# Altium schematic symbol library S805ԭ��ͼ��װ��..SchLib: 9 symbols
Pins are listed as number, name and electrical type; pins without a type are passive.

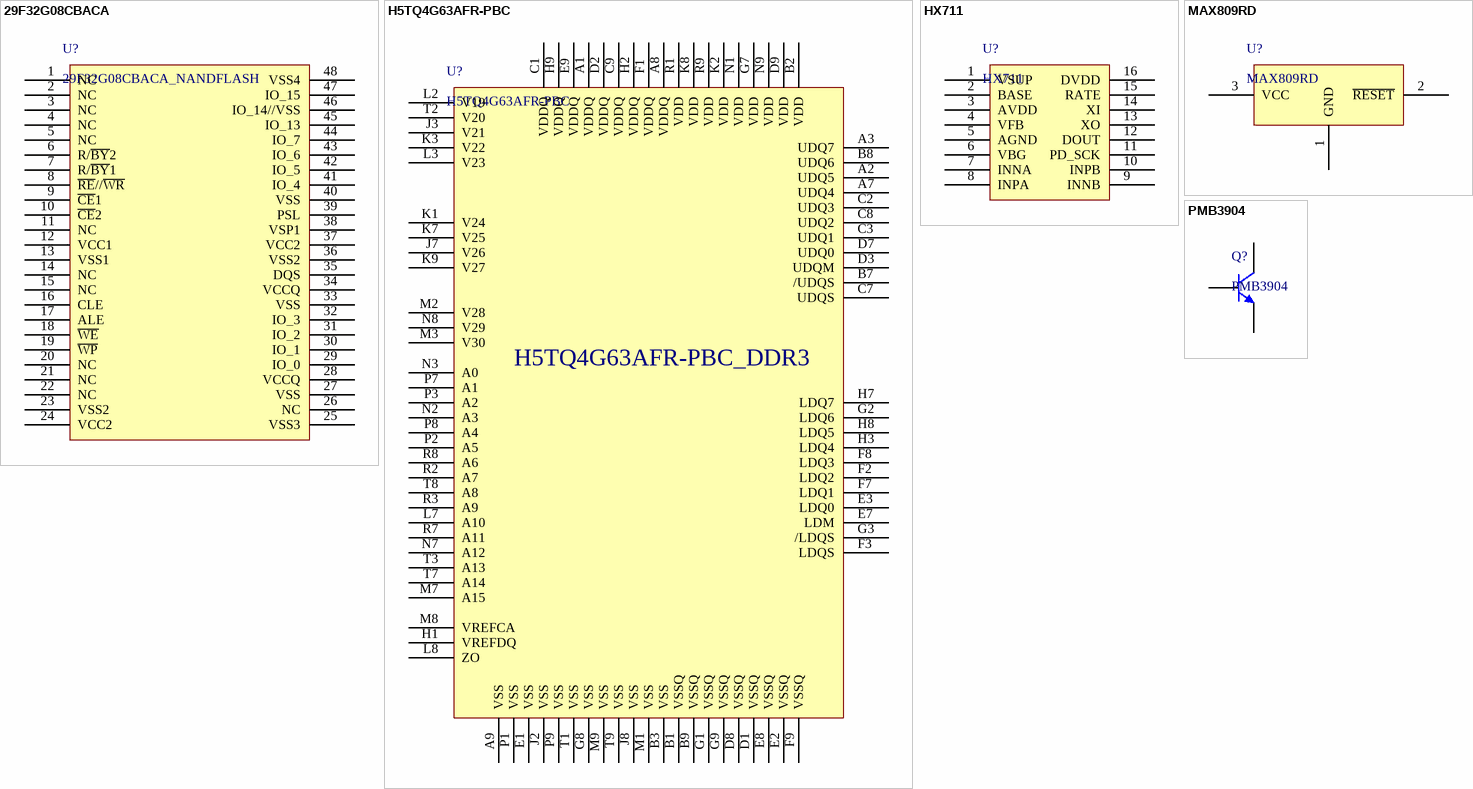
[diagram p0: symbols 29F32G08CBACA to PMB3904]

## 29F32G08CBACA
designator U?, comment 29F32G08CBACA_NANDFLASH
footprint 29F32G08CBACA
pins: 1 NC, 2 NC, 3 NC, 4 NC, 5 NC, 6 R/~{BY}2, 7 R/~{BY}1, 8 ~{RE}//~{WR}, 9 ~{CE}1, 10 ~{CE}2, 11 NC, 12 VCC1, 13 VSS1, 14 NC, 15 NC, 16 CLE, 17 ALE, 18 ~{WE}, 19 ~{WP}, 20 NC, 21 NC, 22 NC, 23 VSS2, 24 VCC2, 25 VSS3, 26 NC, 27 VSS, 28 VCCQ, 29 IO_0, 30 IO_1, 31 IO_2, 32 IO_3, 33 VSS, 34 VCCQ, 35 DQS, 36 VSS2, 37 VCC2, 38 VSP1, 39 PSL, 40 VSS, 41 IO_4, 42 IO_5, 43 IO_6, 44 IO_7, 45 IO_13, 46 IO_14//VSS, 47 IO_15, 48 VSS4

## H5TQ4G63AFR-PBC
designator U?
footprint H5TQ4G63AFR_PBC
pins: A1 VDDQ, A2 UDQ5, A3 UDQ7, A7 UDQ4, A8 VDDQ, A9 VSS, B1 VSSQ, B2 VDD, B3 VSS, B7 /UDQS, B8 UDQ6, B9 VSSQ, C1 VDDQ, C2 UDQ3, C3 UDQ1, C7 UDQS, C8 UDQ2, C9 VDDQ, D1 VSSQ, D2 VDDQ, D3 UDQM, D7 UDQ0, D8 VSSQ, D9 VDD, E1 VSS, E2 VSSQ, E3 LDQ0, E7 LDM, E8 VSSQ, E9 VDDQ, F1 VDDQ, F2 LDQ2, F3 LDQS, F7 LDQ1, F8 LDQ3, F9 VSSQ, G1 VSSQ, G2 LDQ6, G3 /LDQS, G7 VDD, G8 VSS, G9 VSSQ, H1 VREFDQ, H2 VDDQ, H3 LDQ4, H7 LDQ7, H8 LDQ5, H9 VDDQ, J2 VSS, J3 V21, J7 V26, J8 VSS, K1 V24, K2 VDD, K3 V22, K7 V25, K8 VDD, K9 V27, L2 V19, L3 V23, L7 A10, L8 ZO, M1 VSS, M2 V28, M3 V30, M7 A15, M8 VREFCA, M9 VSS, N1 VDD, N2 A3, N3 A0, N7 A12, N8 V29, N9 VDD, P1 VSS, P2 A5, P3 A2, P7 A1, P8 A4, P9 VSS, R1 VDD, R2 A7, R3 A9, R7 A11, R8 A6, R9 VDD, T1 VSS, T2 V20, T3 A13, T7 A14, T8 A8, T9 VSS
text: H5TQ4G63AFR-PBC_DDR3

## HX711
designator U?
footprint HX711-SOP16
pins: 1 VSUP, 2 BASE, 3 AVDD, 4 VFB, 5 AGND, 6 VBG, 7 INNA, 8 INPA, 9 INNB, 10 INPB, 11 PD_SCK, 12 DOUT, 13 XO, 14 XI, 15 RATE, 16 DVDD

## MAX809RD
designator U?
footprint MAX809RD-SOT23
pins: 1 GND, 2 ~{RESET}, 3 VCC

## PMB3904
designator Q?
footprint PMB3904/2N3904
pins: 1 E, 2 B, 3 C

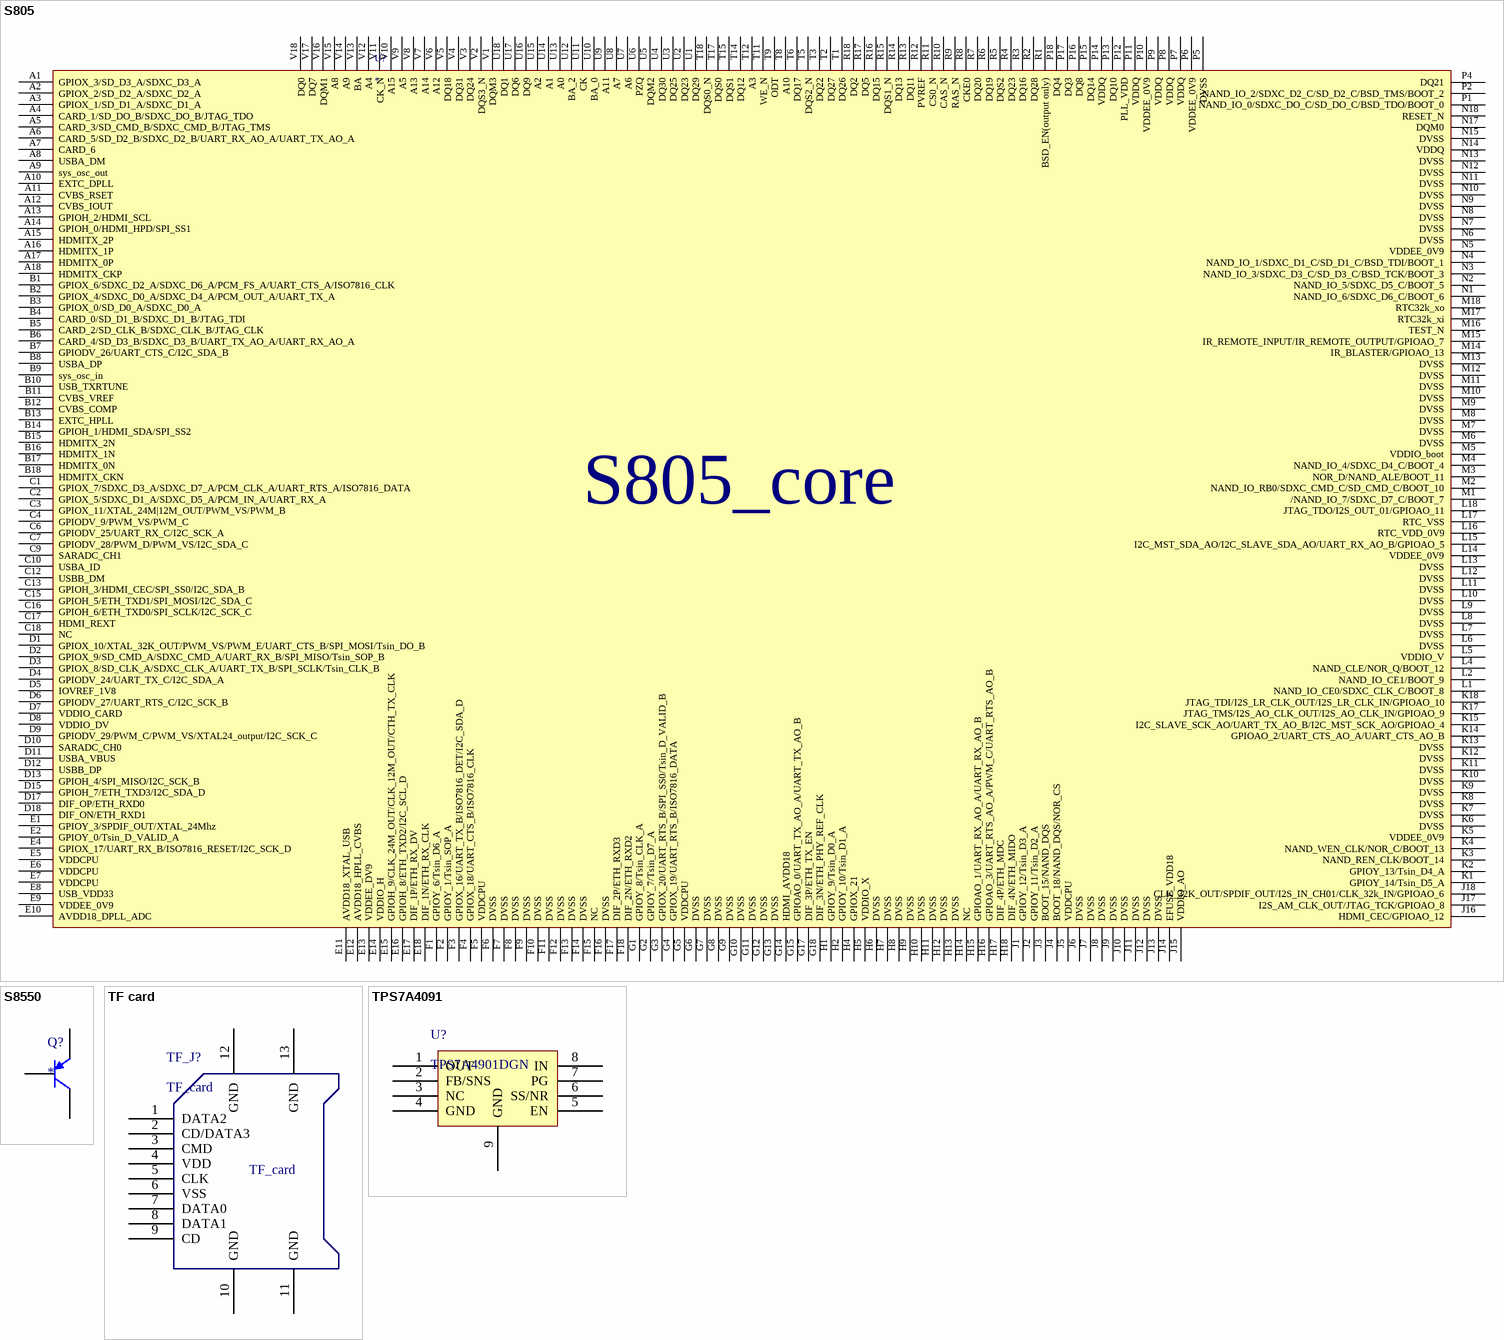
[diagram p1: symbols S805 to TPS7A4091]

## S805
designator U?
footprint S805_BGA324
pins: A1 GPIOX_3/SD_D3_A/SDXC_D3_A, A2 GPIOX_2/SD_D2_A/SDXC_D2_A, A3 GPIOX_1/SD_D1_A/SDXC_D1_A, A4 CARD_1/SD_DO_B/SDXC_DO_B/JTAG_TDO, A5 CARD_3/SD_CMD_B/SDXC_CMD_B/JTAG_TMS, A6 CARD_5/SD_D2_B/SDXC_D2_B/UART_RX_AO_A/UART_TX_AO_A, A7 CARD_6, A8 USBA_DM, A9 sys_osc_out, A10 EXTC_DPLL, A11 CVBS_RSET, A12 CVBS_IOUT, A13 GPIOH_2/HDMI_SCL, A14 GPIOH_0/HDMI_HPD/SPI_SS1, A15 HDMITX_2P, A16 HDMITX_1P, A17 HDMITX_0P, A18 HDMITX_CKP, B1 GPIOX_6/SDXC_D2_A/SDXC_D6_A/PCM_FS_A/UART_CTS_A/ISO7816_CLK, B2 GPIOX_4/SDXC_D0_A/SDXC_D4_A/PCM_OUT_A/UART_TX_A, B3 GPIOX_0/SD_D0_A/SDXC_D0_A, B4 CARD_0/SD_D1_B/SDXC_D1_B/JTAG_TDI, B5 CARD_2/SD_CLK_B/SDXC_CLK_B/JTAG_CLK, B6 CARD_4/SD_D3_B/SDXC_D3_B/UART_TX_AO_A/UART_RX_AO_A, B7 GPIODV_26/UART_CTS_C/I2C_SDA_B, B8 USBA_DP, B9 sys_osc_in, B10 USB_TXRTUNE, B11 CVBS_VREF, B12 CVBS_COMP, B13 EXTC_HPLL, B14 GPIOH_1/HDMI_SDA/SPI_SS2, B15 HDMITX_2N, B16 HDMITX_1N, B17 HDMITX_0N, B18 HDMITX_CKN, C1 GPIOX_7/SDXC_D3_A/SDXC_D7_A/PCM_CLK_A/UART_RTS_A/ISO7816_DATA, C2 GPIOX_5/SDXC_D1_A/SDXC_D5_A/PCM_IN_A/UART_RX_A, C3 GPIOX_11/XTAL_24M|12M_OUT/PWM_VS/PWM_B, C4 GPIODV_9/PWM_VS/PWM_C, C6 GPIODV_25/UART_RX_C/I2C_SCK_A, C7 GPIODV_28/PWM_D/PWM_VS/I2C_SDA_C, C9 SARADC_CH1, C10 USBA_ID, C12 USBB_DM, C13 GPIOH_3/HDMI_CEC/SPI_SS0/I2C_SDA_B, C15 GPIOH_5/ETH_TXD1/SPI_MOSI/I2C_SDA_C, C16 GPIOH_6/ETH_TXD0/SPI_SCLK/I2C_SCK_C, C17 HDMI_REXT, C18 NC, D1 GPIOX_10/XTAL_32K_OUT/PWM_VS/PWM_E/UART_CTS_B/SPI_MOSI/Tsin_DO_B, D2 GPIOX_9/SD_CMD_A/SDXC_CMD_A/UART_RX_B/SPI_MISO/Tsin_SOP_B, D3 GPIOX_8/SD_CLK_A/SDXC_CLK_A/UART_TX_B/SPI_SCLK/Tsin_CLK_B, D4 GPIODV_24/UART_TX_C/I2C_SDA_A, D5 IOVREF_1V8, D6 GPIODV_27/UART_RTS_C/I2C_SCK_B, D7 VDDIO_CARD, D8 VDDIO_DV, D9 GPIODV_29/PWM_C/PWM_VS/XTAL24_output/I2C_SCK_C, D10 SARADC_CH0, D11 USBA_VBUS, D12 USBB_DP, D13 GPIOH_4/SPI_MISO/I2C_SCK_B, D15 GPIOH_7/ETH_TXD3/I2C_SDA_D, D17 DIF_OP/ETH_RXD0, D18 DIF_ON/ETH_RXD1, E1 GPIOY_3/SPDIF_OUT/XTAL_24Mhz, E2 GPIOY_0/Tsin_D_VALID_A, E4 GPIOX_17/UART_RX_B/ISO7816_RESET/I2C_SCK_D, E5 VDDCPU, E6 VDDCPU, E7 VDDCPU, E8 USB_VDD33, E9 VDDEE_0V9, E10 AVDD18_DPLL_ADC, E11 AVDD18_XTAL_USB, E12 AVDD18_HPLL_CVBS, E13 VDDEE_DV9, E14 VDDIO_H, E15 GPIOH_9/CLK_24M_OUT/CLK_12M_OUT/CTH_TX_CLK, E16 GPIOH_8/ETH_TXD2/I2C_SCL_D, E17 DIF_1P/ETH_RX_DV, E18 DIF_1N/ETH_RX_CLK, F1 GPIOY_6/Tsin_D6_A, F2 GPIOY_1/Tsin_SOP_A, F3 GPIOX_16/UART_TX_B/ISO7816_DET/I2C_SDA_D, F4 GPIOX_18/UART_CTS_B/ISO7816_CLK, F5 VDDCPU, F6 DVSS, F7 DVSS, F8 DVSS, F9 DVSS, F10 DVSS, F11 DVSS, F12 DVSS, F13 DVSS, F14 DVSS, F15 NC, F16 DVSS, F17 DIF_2P/ETH_RXD3, F18 DIF_2N/ETH_RXD2, G1 GPIOY_8/Tsin_CLK_A, G2 GPIOY_7/Tsin_D7_A, G3 GPIOX_20/UART_RTS_B/SPI_SS0/Tsin_D_VALID_B, G4 GPIOX_19/UART_RTS_B/ISO7816_DATA, G5 VDDCPU, G6 DVSS, G7 DVSS, G8 DVSS, G9 DVSS, G10 DVSS, G11 DVSS, G12 DVSS, G13 DVSS, G14 HDMI_AVDD18, G15 GPIOAO_0/UART_TX_AO_A/UART_TX_AO_B, G17 DIF_3P/ETH_TX_EN, G18 DIF_3N/ETH_PHY_REF_CLK, H1 GPIOY_9/Tsin_D0_A, H2 GPIOY_10/Tsin_D1_A, H4 GPIOX_21, H5 VDDIO_X, H6 DVSS, H7 DVSS, H8 DVSS, H9 DVSS, H10 DVSS, H11 DVSS, H12 DVSS, H13 DVSS, H14 NC, H15 GPIOAO_1/UART_RX_AO_A/UART_RX_AO_B, H16 GPIOAO_3/UART_RTS_AO_A/PWM_C/UART_RTS_AO_B, H17 DIF_4P/ETH_MDC, H18 DIF_4N/ETH_MIDO, J1 GPIOY_12/Tsin_D3_A, J2 GPIOY_11/Tsin_D2_A, J3 BOOT_15/NAND_DQS, J4 BOOT_18/NAND_DQS/NOR_CS, J5 VDDCPU, J6 DVSS, J7 DVSS, J8 DVSS, J9 DVSS, J10 DVSS, J11 DVSS, J12 DVSS, J13 DVSS, J14 EFUSE_VDD18, J15 VDDIO_AO, J16 HDMI_CEC/GPIOAO_12, J17 I2S_AM_CLK_OUT/JTAG_TCK/GPIOAO_8, J18 CLK_32K_OUT/SPDIF_OUT/I2S_IN_CH01/CLK_32k_IN/GPIOAO_6, K1 GPIOY_14/Tsin_D5_A, K2 GPIOY_13/Tsin_D4_A, K3 NAND_REN_CLK/BOOT_14, K4 NAND_WEN_CLK/NOR_C/BOOT_13, K5 VDDEE_0V9, K6 DVSS, K7 DVSS, K8 DVSS, K9 DVSS, K10 DVSS, K11 DVSS, K12 DVSS, K13 DVSS, K14 GPIOAO_2/UART_CTS_AO_A/UART_CTS_AO_B, K15 I2C_SLAVE_SCK_AO/UART_TX_AO_B/I2C_MST_SCK_AO/GPIOAO_4, K17 JTAG_TMS/I2S_AO_CLK_OUT/I2S_AO_CLK_IN/GPIOAO_9, K18 JTAG_TDI/I2S_LR_CLK_OUT/I2S_LR_CLK_IN/GPIOAO_10, L1 NAND_IO_CE0/SDXC_CLK_C/BOOT_8, L2 NAND_IO_CE1/BOOT_9, L4 NAND_CLE/NOR_Q/BOOT_12, L5 VDDIO_V, L6 DVSS, L7 DVSS, L8 DVSS, L9 DVSS, L10 DVSS, L11 DVSS, L12 DVSS, L13 DVSS, L14 VDDEE_0V9, L15 I2C_MST_SDA_AO/I2C_SLAVE_SDA_AO/UART_RX_AO_B/GPIOAO_5, L16 RTC_VDD_0V9, L17 RTC_VSS, L18 JTAG_TDO/I2S_OUT_01/GPIOAO_11, M1 /NAND_IO_7/SDXC_D7_C/BOOT_7, M2 NAND_IO_RB0/SDXC_CMD_C/SD_CMD_C/BOOT_10, M3 NOR_D/NAND_ALE/BOOT_11, M4 NAND_IO_4/SDXC_D4_C/BOOT_4, M5 VDDIO_boot, M6 DVSS, M7 DVSS, M8 DVSS, M9 DVSS, M10 DVSS, M11 DVSS, M12 DVSS, M13 DVSS, M14 IR_BLASTER/GPIOAO_13, M15 IR_REMOTE_INPUT/IR_REMOTE_OUTPUT/GPIOAO_7, M16 TEST_N, M17 RTC32k_xi, M18 RTC32k_xo, N1 NAND_IO_6/SDXC_D6_C/BOOT_6, N2 NAND_IO_5/SDXC_D5_C/BOOT_5, N3 NAND_IO_3/SDXC_D3_C/SD_D3_C/BSD_TCK/BOOT_3, N4 NAND_IO_1/SDXC_D1_C/SD_D1_C/BSD_TDI/BOOT_1, N5 VDDEE_0V9, N6 DVSS, N7 DVSS, N8 DVSS, N9 DVSS, N10 DVSS, N11 DVSS, N12 DVSS, N13 DVSS, N14 VDDQ, N15 DVSS, N17 DQM0, N18 RESET_N, P1 NAND_IO_0/SDXC_DO_C/SD_DO_C/BSD_TDO/BOOT_0, P2 NAND_IO_2/SDXC_D2_C/SD_D2_C/BSD_TMS/BOOT_2, P4 DQ21, P5 DVSS, P6 VDDEE_0V9, P7 VDDQ, P8 VDDQ, P9 VDDQ, P10 VDDEE_0V9, P11 VDDQ, P12 PLL_VDD, P13 DQ10, P14 VDDQ, P15 DQ14, P16 DQ8, P17 DQ3, P18 DQ4, R1 BSD_EN(output only), R2 DQ28, R3 DQ16, R4 DQ23, R5 DQS2, R6 DQ19, R7 DQ20, R8 CKE0, R9 RAS_N, R10 CAS_N, R11 CS0_N, R12 PVREF, R13 DQ11, R14 DQ13, R15 DQS1_N, R16 DQ15, R17 DQ5, R18 DQ2, T1 DQ26, T2 DQ27, T3 DQ22, T5 DQS2_N, T6 DQ17, T8 A10, T9 ODT, T11 WE_N, T12 A3, T14 DQ12, T15 DQS1, T17 DQS0, T18 DQS0_N, U1 DQ29, U2 DQ23, U3 DQ25, U4 DQ30, U5 DQM2, U6 PZQ, U7 A6, U8 A7, U9 A11, U10 BA_0, U11 CK, U12 BA_2, U13 A0, U14 A1, U15 A2, U16 DQ9, U17 DQ6, U18 DQ1, V1 DQM3, V2 DQS3_N, V3 DQ24, V4 DQ31, V5 DQ18, V6 A12, V7 A14, V8 A13, V9 A5, V10 A15, V11 CK_N, V12 A4, V13 BA, V14 A9, V15 A8, V16 DQM1, V17 DQ7, V18 DQ0
text: S805_core

## S8550
designator Q?
footprint S8550_SOT23
pins: 1 B, 2 E, 3 C

## TF card
designator TF_J?, comment TF_card
footprint TF card
pins: 1 DATA2, 2 CD/DATA3, 3 CMD, 4 VDD, 5 CLK, 6 VSS, 7 DATA0, 8 DATA1, 9 CD, 10 GND, 11 GND, 12 GND, 13 GND

## TPS7A4091
designator U?, comment TPS7A4901DGN
footprint TPS7A4901DGN-SOP8
pins: 1 OUT, 2 FB/SNS, 3 NC, 4 GND, 5 EN, 6 SS/NR, 7 PG, 8 IN, 9 GND